# EAGLE library part 648008117322 (library Wuerth_Elektronik_eiCan_Wire_to_Board_Connectors v1.2)
WR-WTB 1.50mm Male Horizontal Shrouded Header, 8 Pins
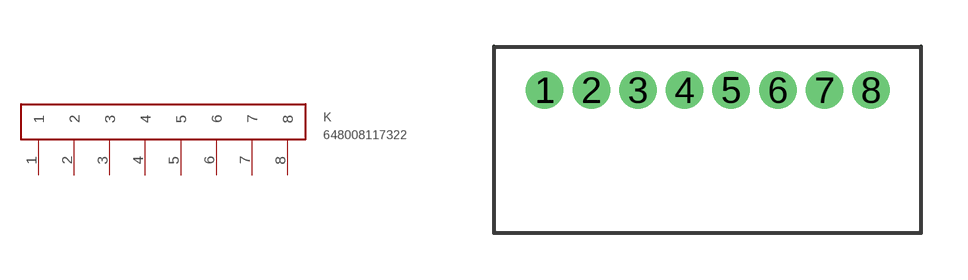
[diagram p78: symbol with the pads of 648008117322; footprint 648008117322]

Designator prefix K

## 648008117322  [648008117322]
1  1
2  2
3  3
4  4
5  5
6  6
7  7
8  8

## Footprint 648008117322 (pad centres in mm)
WR-WTB 1.50mm Male Horizontal Shrouded Header, 8 Pins
drill 0.7 round: 1 -0.75,0; 2 0.75,0; 3 2.25,0; 4 3.75,0; 5 5.25,0; 6 6.75,0; 7 8.25,0; 8 9.75,0